# EAGLE library part SN74HC74-* (library DAC)
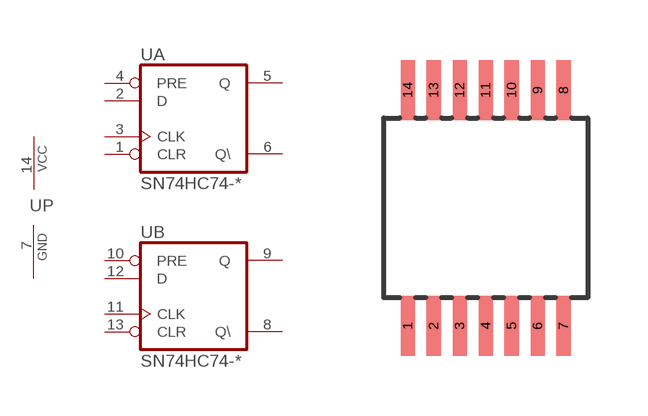
[diagram p16: symbol with the pads of TSSOP14; footprint TSSOP14]

Designator prefix U; gates A=DFLIPFLOP B=DFLIPFLOP P=PWR

## SN74HC74-PW  [TSSOP14]
1  A:CLR  in
2  A:D  in
3  A:CLK  in
4  A:PRE  in
5  A:Q  out
6  A:Q\  out
7  P:GND  pwr
8  B:Q\  out
9  B:Q  out
10  B:PRE  in
11  B:CLK  in
12  B:D  in
13  B:CLR  in
14  P:VCC  pwr

## Footprint TSSOP14 (pad centres in mm)
smd 0.35 x 1.5: 1 -1.95,-2.95; 2 -1.3,-2.95; 3 -0.65,-2.95; 4 0,-2.95; 5 0.65,-2.95; 6 1.3,-2.95; 7 1.95,-2.95; 8 1.95,2.95; 9 1.3,2.95; 10 0.65,2.95; 11 0,2.95; 12 -0.65,2.95; 13 -1.3,2.95; 14 -1.95,2.95